# EAGLE library part ESP-32S (library Co.-ESP)
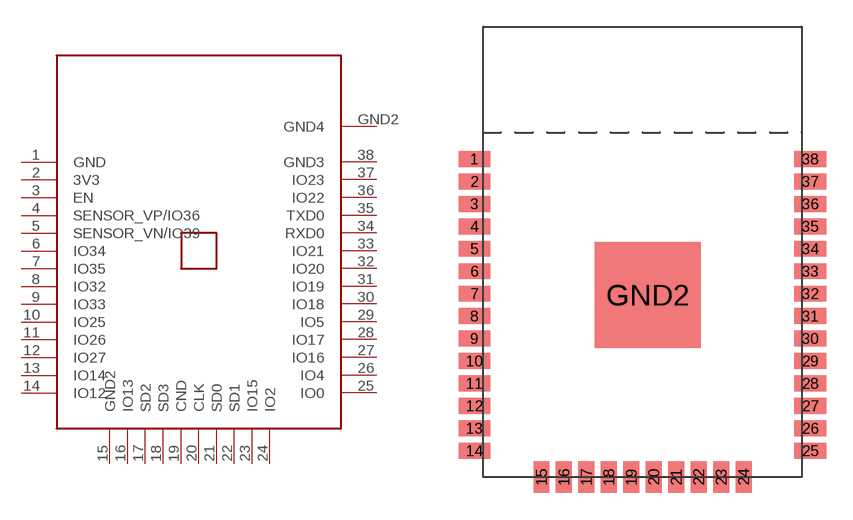
[diagram p19: symbol with the pads of ESP-32; footprint ESP-32]

Designator prefix -

## ESP-32S  [ESP-32]
1  GND
2  3V3
3  EN
4  SENSOR_VP/IO36
5  SENSOR_VN/IO39
6  IO34
7  IO35
8  IO32
9  IO33
10  IO25
11  IO26
12  IO27
13  IO14
14  IO12
15  GND2
16  IO13
17  SD2
18  SD3
19  CND
20  CLK
21  SD0
22  SD1
23  IO15
24  IO2
25  IO0
26  IO4
27  IO16
28  IO17
29  IO5
30  IO18
31  IO19
32  IO20
33  IO21
34  RXD0
35  TXD0
36  IO22
37  IO23
38  GND3
GND2  GND4

## Footprint ESP-32 (pad centres in mm)
smd 1.8 x 0.9: 1 -0.5,18; 2 -0.5,16.73; 3 -0.5,15.46; 4 -0.5,14.19; 5 -0.5,12.92; 6 -0.5,11.65; 7 -0.5,10.38; 8 -0.5,9.11; 9 -0.5,7.84; 10 -0.5,6.57; 11 -0.5,5.3; 12 -0.5,4.03; 13 -0.5,2.76; 14 -0.5,1.49; 25 18.49,1.49; 26 18.49,2.76; 27 18.49,4.03; 28 18.49,5.3; 29 18.49,6.57; 30 18.49,7.84; 31 18.49,9.11; 32 18.49,10.38; 33 18.49,11.65; 34 18.49,12.92; 35 18.49,14.19; 36 18.49,15.46; 37 18.49,16.73; 38 18.49,18
smd 0.9 x 1.8: 15 3.29,0; 16 4.56,0; 17 5.83,0; 18 7.1,0; 19 8.37,0; 20 9.64,0; 21 10.91,0; 22 12.18,0; 23 13.45,0; 24 14.72,0
smd 6 x 6: GND2 9.3,10.3